# EAGLE library part ATTINY85 (library Eagle3D-IC_Atmel)
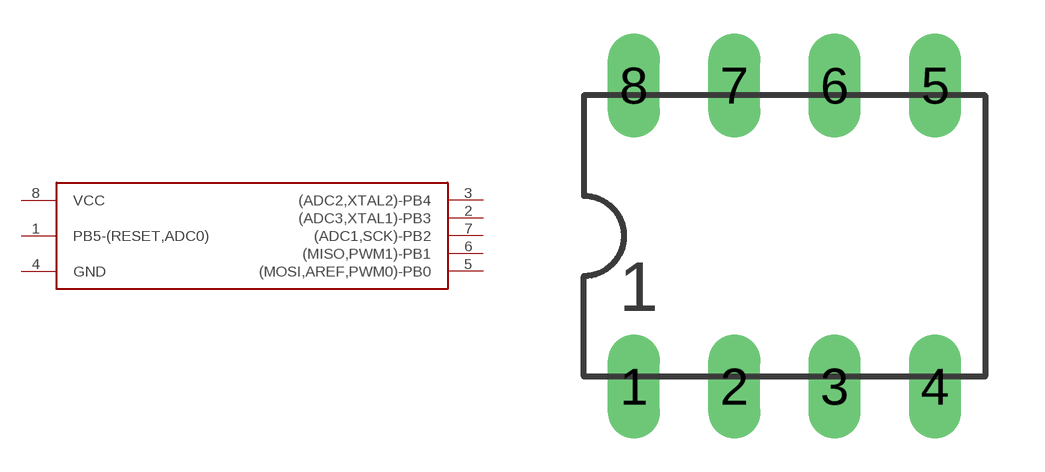
[diagram p0: symbol with the pads of DIL08; footprint DIL08]

Designator prefix IC

## ATTINY85  [DIL08]
1  PB5-(RESET,ADC0)
2  (ADC3,XTAL1)-PB3
3  (ADC2,XTAL2)-PB4
4  GND
5  (MOSI,AREF,PWM0)-PB0
6  (MISO,PWM1)-PB1
7  (ADC1,SCK)-PB2
8  VCC

## Footprint DIL08 (pad centres in mm)
drill 0.813 pad 1.27 long: 1 -3.81,-3.81; 2 -1.27,-3.81; 3 1.27,-3.81; 4 3.81,-3.81; 5 3.81,3.81; 6 1.27,3.81; 7 -1.27,3.81; 8 -3.81,3.81